# Altium schematic symbol library misc connector.SchLib: 1 symbol
Pins are listed as number, name and electrical type; pins without a type are passive.

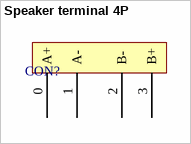
[diagram p0: symbol Speaker terminal 4P]

## Speaker terminal 4P
designator CON?  (value not drawn)
footprint Speaker termina 4x DPS
pins: 0 A+, 1 A-, 2 B-, 3 B+